# Altium footprint library misc.PcbLib: 21 footprints (part 2 of 2)
Each footprint in its own frame and in the unit in brackets; x right, y up, seen from the top. Pads: shape width x height; smd on the part's side, far side on the other; paste and mask are expansions set on the pad; w line width, h text height; cw(c..) or ccw(c..) is an arc to the next point about the centre after c.
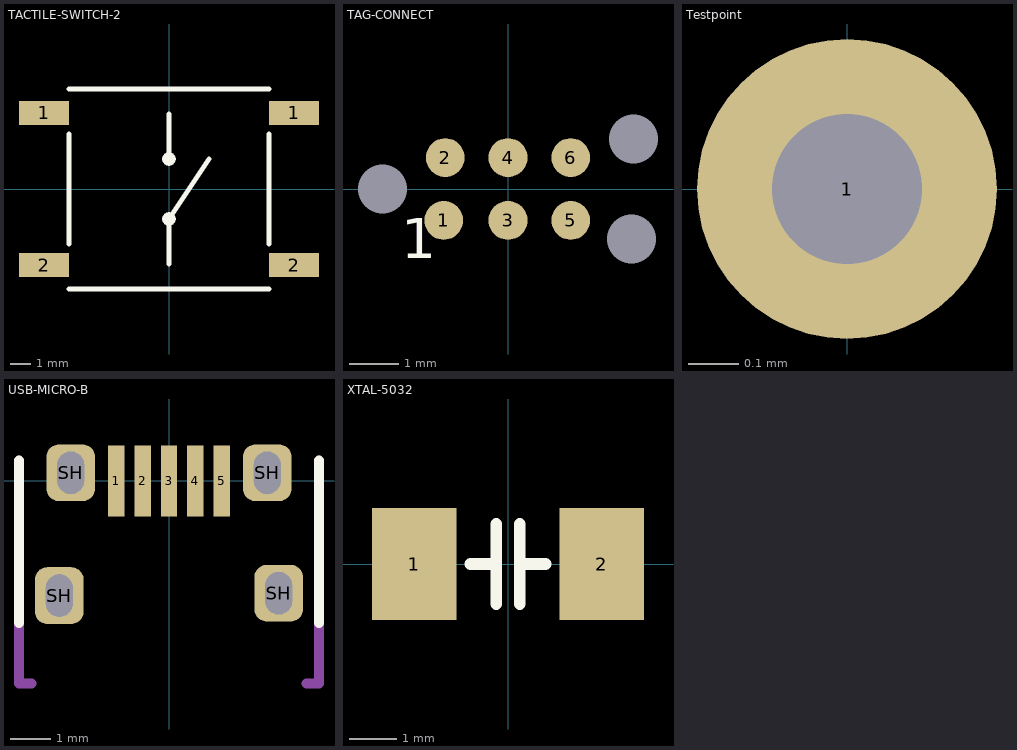
[diagram p1: the footprints below, top view; thin cyan lines are the x and y axes]

## TACTILE-SWITCH-2 [mm] "Large tactile switch"
height 6.4
pads (4):
  rect 2.5x1.2 smd: 1(-6.25,3.81) 1(6.25,3.81) 2(-6.25,-3.81) 2(6.25,-3.81)
Top Overlay:
  circle w0.254: c0,1.5 r0.212
  circle w0.254: c0,-1.5 r0.212
  lines w0.254: -5,-5 5,-5 ; -5,-2.75 -5,2.75 ; -5,5 5,5 ; 0,-3.75 0,-1.5 2,1.5 ; 0,1.5 0,3.75 ; 5,-2.75 5,2.75

## TAG-CONNECT [mm] "Tag-Connect TC-2030-IDC-NL"
pads (9):
  round 0.787 smd: 1(-1.3,-0.635) 2(-1.27,0.635) 3(0,-0.635) 4(0,0.635) 5(1.27,-0.635) 6(1.27,0.635)
  round 0 hole 0.991 unplated: ""(-2.54,0) ""(2.5,-1.016) ""(2.54,1.016)
Top Overlay:
  text "1" at -2.159,-1.397 h0.81

## Testpoint [mm] "Testpoint"
pads (1):
  round 0.6 hole 0.3: 1(0,0)

## USB-MICRO-B [mm] "FCI 10103594-0001LF"
height 3
pads (9):
  rect 0.4x1.75 smd: 1(-1.3,0) 2(-0.65,0) 3(0,0) 4(0.65,0) 5(1.3,0)
  rrect50% 1.2x1.4 hole 0.66 slot 1.05 at 90 deg: SH(-2.705,-2.83) SH(-2.425,0.2) SH(2.425,0.2) SH(2.705,-2.77)
Top Overlay:
  lines w0.254: -3.7,-3.5 -3.7,0.5 ; 3.7,-3.5 3.7,0.5
Mechanical 13:
  lines w0.254: -3.7,0.5 -3.7,-5 -3.4,-5 ; 3.4,-5 3.7,-5 3.7,0.5

## XTAL-5032 [mm] "SMD Crystal 5x3.2mm"
height 1
pads (2):
  rect 1.8x2.4 smd: 1(-2,0) 2(2,0)
Top Overlay:
  lines w0.254: -0.8,0 -0.25,0 ; -0.25,-0.85 -0.25,0.85 ; 0.25,-0.85 0.25,0.85 ; 0.25,0 0.8,0